# Altium schematic symbol library L8050QLT1G.SchLib: 1 symbol
Pins are listed as number, name and electrical type; pins without a type are passive.

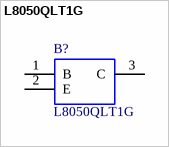
[diagram p0: symbol L8050QLT1G]

## L8050QLT1G
designator B?
Trans GP BJT NPN 25V 0.8A 3-Pin SOT-23 T/R; Manufacturer_Name: Leshan Radio; Geometry.Height: 1.11mm; Manufacturer_Part_Number: L8050QLT1G; Mouser Part Number: *; Mouser Price/Stock: *; Arrow Part Number: *; Arrow Price/Stock: *; Datasheet Link: https://datasheet.datasheetarchive.com/originals/distributors/Datasheets-28/DSA-558356.pdf
footprint L8050QLT1G
pins: 1 B, 2 E, 3 C